# Altium schematic symbol library MCP3201.SchLib: 1 symbol
Pins are listed as number, name and electrical type; pins without a type are passive.

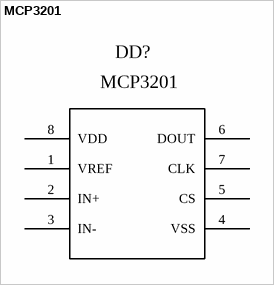
[diagram p0: symbol MCP3201]

## MCP3201
designator DD?
footprint MAX1771_DIP8 - duplicate
pins: 1 VREF, 2 IN+, 3 IN-, 4 VSS, 5 CS, 6 DOUT, 7 CLK, 8 VDD